# Altium schematic symbol library 90633A411.SchLib: 1 symbol
Pins are listed as number, name and electrical type; pins without a type are passive.

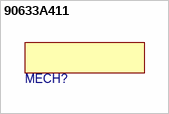
[diagram p0: symbol 90633A411]

## 90633A411
designator MECH?  (mechanical)